# Altium footprint library 691137710002.PcbLib: 1 footprints
Each footprint in its own frame and in the unit in brackets; x right, y up, seen from the top. Pads: shape width x height; smd on the part's side, far side on the other; paste and mask are expansions set on the pad; w line width, h text height; cw(c..) or ccw(c..) is an arc to the next point about the centre after c.
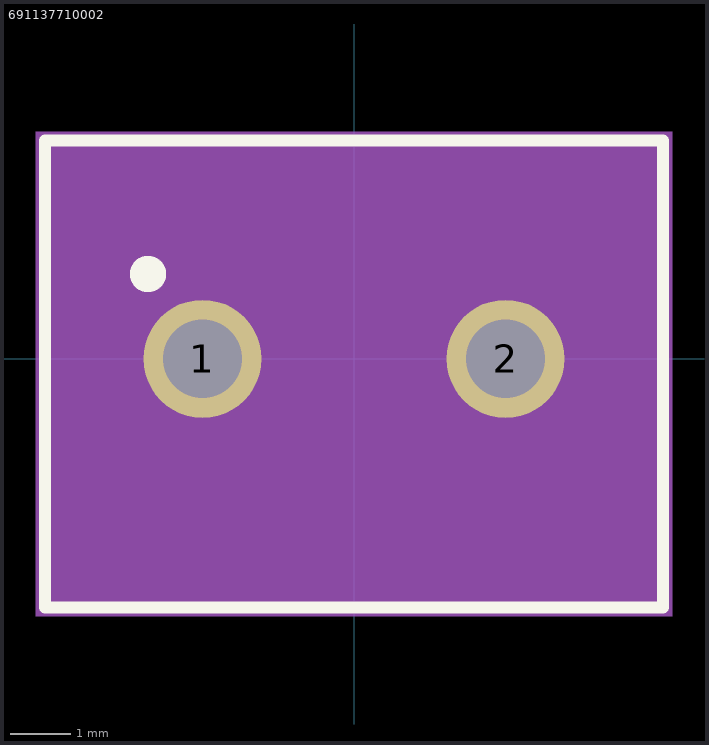
[diagram p0: the footprint, top view; thin cyan lines are the x and y axes]

## 691137710002 [mm]
pads (2):
  round 1.95 hole 1.3: 1(-2.5,0) 2(2.5,0)
Top Overlay:
  circle w0.4: c-3.4,1.4 r0.1
  lines w0.2: -5.1,-4.1 -5.1,3.6 5.1,3.6 5.1,-4.1 -5.1,-4.1
Assembly Top:
  lines w0.1: -5,-4 -5,3.5 5,3.5 5,-4 -5,-4
Courtyard Top:
  region: 5.25,-4.25 -5.25,-4.25 -5.25,3.75 5.25,3.75
3D body "step_temp.STEP": height 11.5, standoff -3.6, extent -7.5,0 0,10